# EAGLE library part RASPBERRY_PI_PICO_BOTH_TH_PINHEADER (library FaBo-Boards)
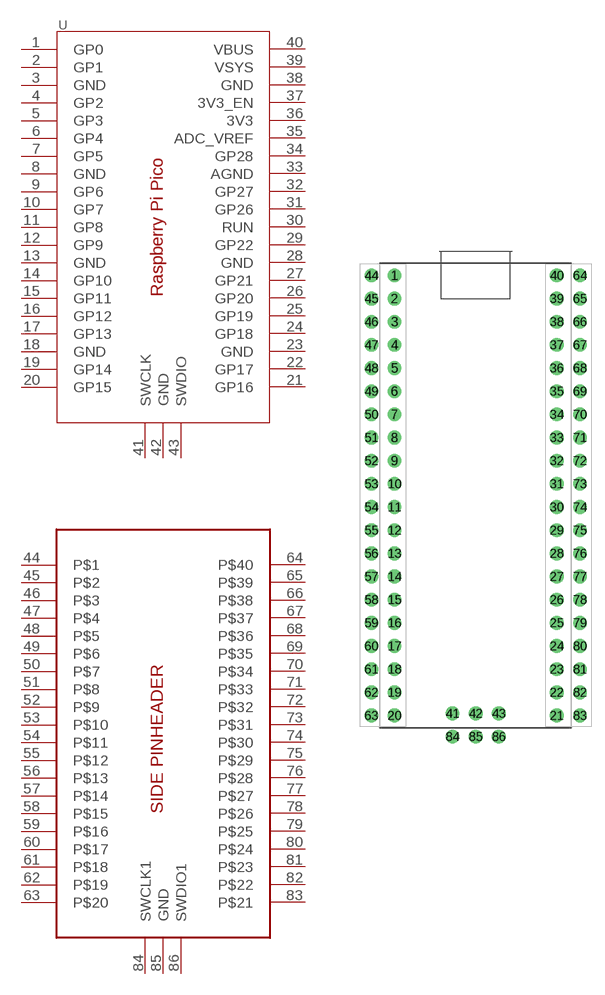
[diagram p18: symbol with the pads of RASPBERRY_PI_PICO_HEADER_BOTH; footprint RASPBERRY_PI_PICO_HEADER_BOTH]

Designator prefix -

## RASPBERRY_PI_PICO_BOTH_TH_PINHEADER  [RASPBERRY_PI_PICO_HEADER_BOTH]
1  GP0
2  GP1
3  GND
4  GP2
5  GP3
6  GP4
7  GP5
8  GND
9  GP6
10  GP7
11  GP8
12  GP9
13  GND
14  GP10
15  GP11
16  GP12
17  GP13
18  GND
19  GP14
20  GP15
21  GP16
22  GP17
23  GND
24  GP18
25  GP19
26  GP20
27  GP21
28  GND
29  GP22
30  RUN
31  GP26
32  GP27
33  AGND
34  GP28
35  ADC_VREF
36  3V3
37  3V3_EN
38  GND
39  VSYS
40  VBUS
41  SWCLK
42  GND
43  SWDIO
44  P$1
45  P$2
46  P$3
47  P$4
48  P$5
49  P$6
50  P$7
51  P$8
52  P$9
53  P$10
54  P$11
55  P$12
56  P$13
57  P$14
58  P$15
59  P$16
60  P$17
61  P$18
62  P$19
63  P$20
64  P$40
65  P$39
66  P$38
67  P$37
68  P$36
69  P$35
70  P$34
71  P$33
72  P$32
73  P$31
74  P$30
75  P$29
76  P$28
77  P$27
78  P$26
79  P$25
80  P$24
81  P$23
82  P$22
83  P$21
84  SWCLK1
85  GND
86  SWDIO1

## Footprint RASPBERRY_PI_PICO_HEADER_BOTH (pad centres in mm)
drill 1: 1 -8.89,24.13; 2 -8.89,21.59; 3 -8.89,19.05; 4 -8.89,16.51; 5 -8.89,13.97; 6 -8.89,11.43; 7 -8.89,8.89; 8 -8.89,6.35; 9 -8.89,3.81; 10 -8.89,1.27; 11 -8.89,-1.27; 12 -8.89,-3.81; 13 -8.89,-6.35; 14 -8.89,-8.89; 15 -8.89,-11.43; 16 -8.89,-13.97; 17 -8.89,-16.51; 18 -8.89,-19.05; 19 -8.89,-21.59; 20 -8.89,-24.13; 21 8.89,-24.13; 22 8.89,-21.59; 23 8.89,-19.05; 24 8.89,-16.51; 25 8.89,-13.97; 26 8.89,-11.43; 27 8.89,-8.89; 28 8.89,-6.35; 29 8.89,-3.81; 30 8.89,-1.27; 31 8.89,1.27; 32 8.89,3.81; 33 8.89,6.35; 34 8.89,8.89; 35 8.89,11.43; 36 8.89,13.97; 37 8.89,16.51; 38 8.89,19.05; 39 8.89,21.59; 40 8.89,24.13; 41 -2.54,-23.9; 42 0,-23.9; 43 2.54,-23.9; 44 -11.43,24.13; 45 -11.43,21.59; 46 -11.43,19.05; 47 -11.43,16.51; 48 -11.43,13.97; 49 -11.43,11.43; 50 -11.43,8.89; 51 -11.43,6.35; 52 -11.43,3.81; 53 -11.43,1.27; 54 -11.43,-1.27; 55 -11.43,-3.81; 56 -11.43,-6.35; 57 -11.43,-8.89; 58 -11.43,-11.43; 59 -11.43,-13.97; 60 -11.43,-16.51; 61 -11.43,-19.05; 62 -11.43,-21.59; 63 -11.43,-24.13; 64 11.43,24.13; 65 11.43,21.59; 66 11.43,19.05; 67 11.43,16.51; 68 11.43,13.97; 69 11.43,11.43; 70 11.43,8.89; 71 11.43,6.35; 72 11.43,3.81; 73 11.43,1.27; 74 11.43,-1.27; 75 11.43,-3.81; 76 11.43,-6.35; 77 11.43,-8.89; 78 11.43,-11.43; 79 11.43,-13.97; 80 11.43,-16.51; 81 11.43,-19.05; 82 11.43,-21.59; 83 11.43,-24.13; 84 -2.54,-26.44; 85 0,-26.44; 86 2.54,-26.44